# Altium footprint library CAP_1.5uF_400V.PcbLib: 1 footprints
Each footprint in its own frame and in the unit in brackets; x right, y up, seen from the top. Pads: shape width x height; smd on the part's side, far side on the other; paste and mask are expansions set on the pad; w line width, h text height; cw(c..) or ccw(c..) is an arc to the next point about the centre after c.
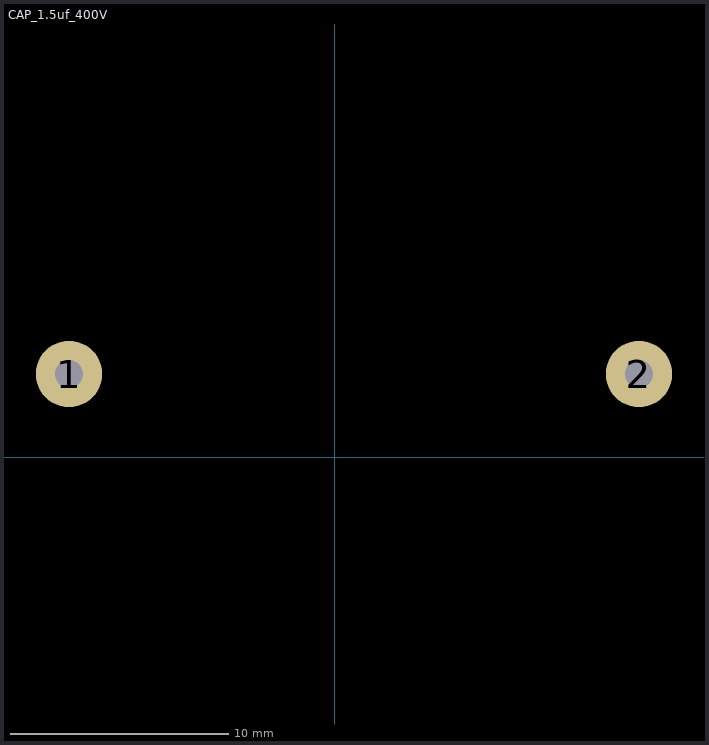
[diagram p0: the footprint, top view; thin cyan lines are the x and y axes]

## CAP_1.5uf_400V [mil]
pads (2):
  round 120 hole 50: 1(-480,150) 2(550,150)
3D body "Hitano MER 1.5uF 400V.STEP": height 695.28, standoff -131.5, extent -527.05,-19.29 595,319.29